# Altium schematic symbol library ŞEMATİK KÜTÜPHANE.SchLib: 23 symbols
Pins are listed as number, name and electrical type; pins without a type are passive.

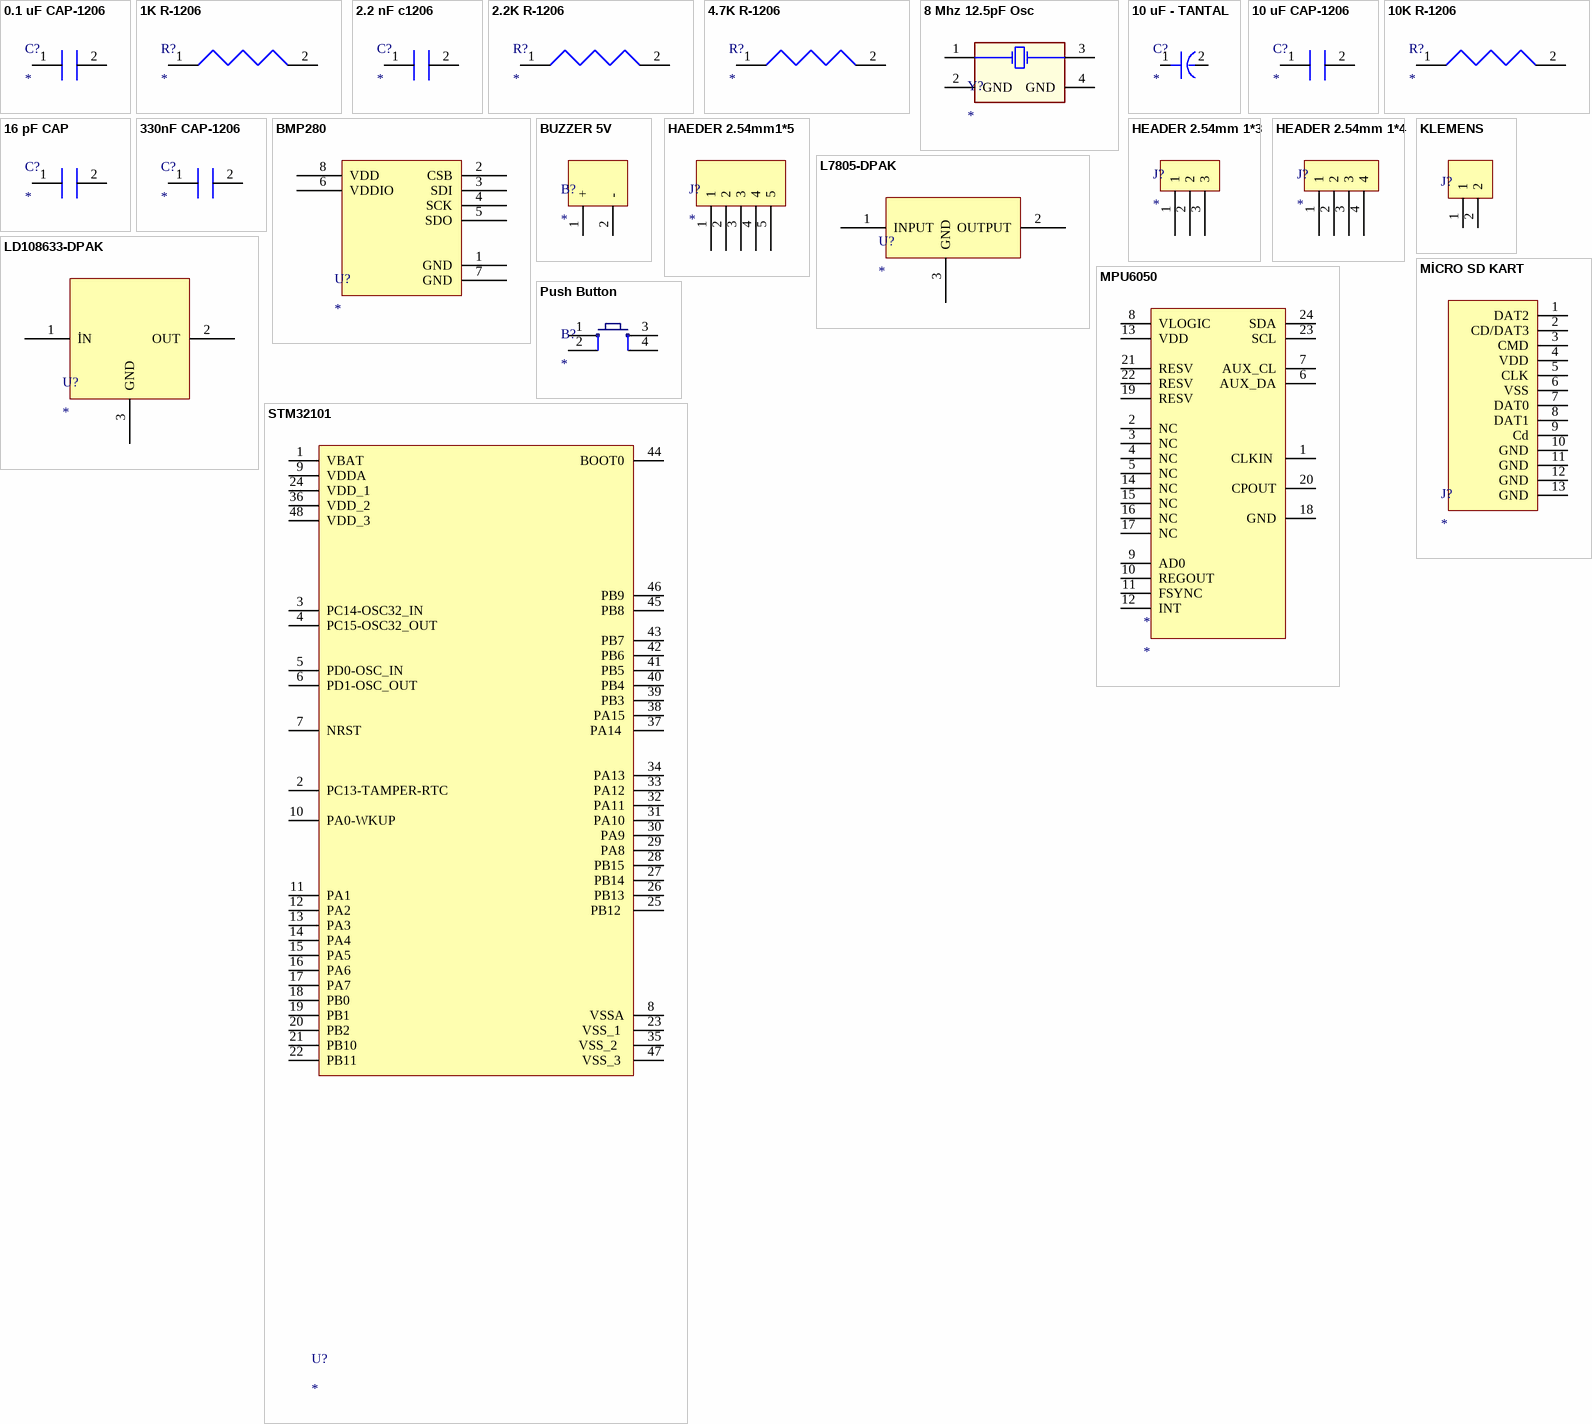
[diagram p0: symbols 0.1 uF CAP-1206 to STM32101]

## 0.1 uF CAP-1206
designator C?
0.1 uF 1206
footprint CAP-1206
pins: 1, 2

## 1K R-1206
designator R?
footprint RES 1206
pins: 1, 2

## 2.2 nF c1206
designator C?
footprint CAP-1206
pins: 1, 2

## 2.2K R-1206
designator R?
footprint RES 1206
pins: 1, 2

## 4.7K R-1206
designator R?
footprint RES 1206
pins: 1, 2

## 8 Mhz 12.5pF Osc
designator Y?
footprint 8 Mhz 12.5pF OSC
pins: 1 (power) "Regulator Input Supply. Bypass IN to GND with a 1 uF or greater capacitor.", 2 GND (power) "Ground.", 3 "Enable Input. Drive EN high to turn on the regulator; drive it low to turn off the regulator. For automatic startup, connect EN to IN.", 4 GND "Connect a 1 nF or greater capacitor (10 nF is recommended) between BYP and GND to reduce the internal reference noise for low noise applications."

## 10 uF - TANTAL
designator C?
KUTUPLU
footprint CAP-1206 TANTAL
pins: 1, 2

## 10 uF CAP-1206
designator C?
footprint CAP-1206
pins: 1, 2

## 10K R-1206
designator R?
footprint RES 1206
pins: 1, 2

## 16 pF CAP
designator C?
16pF Capasitör
footprint 16pF CAP
pins: 1, 2

## 330nF CAP-1206
designator C?
330nF 1206
footprint CAP-1206
pins: 1, 2

## BMP280
designator U?
BMP280 SENSOR
footprint BMP-280
pins: 1 GND, 2 CSB, 3 SDI, 4 SCK, 5 SDO, 6 VDDIO, 7 GND, 8 VDD

## BUZZER 5V
designator B?
1*2
footprint BUZZER (1*2)
pins: 1 +, 2 -

## HAEDER 2.54mm1*5
designator J?
5 PİNLİ
footprint FEMALE HEADER 1*5 2.54 MM
pins: 1, 2, 3, 4, 5

## HEADER 2.54mm 1*3
designator J?
3 PİNLİ
footprint FEMALE HEADER 1*3 2.54MM
pins: 1, 2, 3

## HEADER 2.54mm 1*4
designator J?
4 PİNLİ
footprint FEMALE HEADER 1*4 2.54MM
pins: 1, 2, 3, 4

## KLEMENS
designator J?
1*2/ 3.5MM
footprint KLEMENS 1*2 / 3.5mm
pins: 1, 2

## L7805-DPAK
designator U?
5V REGÜLATÖR DPAK
footprint DPAKL7805 REGULATOR
pins: 1 INPUT, 2 OUTPUT, 3 GND

## LD108633-DPAK
designator U?
3.3V  REGÜLATÖR
footprint DPAKL7805 REGULATOR
pins: 1 İN, 2 OUT, 3 GND

## MİCRO SD KART
designator J?
SD HOLDER
footprint MİCRO SD KART (SD CARD HOLDER)
pins: 1 DAT2, 2 CD/DAT3, 3 CMD, 4 VDD, 5 CLK, 6 VSS, 7 DAT0, 8 DAT1, 9 Cd, 10 GND, 11 GND, 12 GND, 13 GND

## MPU6050
designator *
QFNP 6*6 İŞLEMCİ
footprint MPU6050-QFN (QFN, 24-Leads, Body 3,95x3,95mm, Pitch 0,50mm, Thermal Pad 2,70x2,60mm, IPC Medium Density)
pins: 1 CLKIN , 2 NC, 3 NC, 4 NC, 5 NC, 6 AUX_DA, 7 AUX_CL, 8 VLOGIC, 9 AD0, 10 REGOUT, 11 FSYNC, 12 INT, 13 VDD, 14 NC, 15 NC, 16 NC, 17 NC, 18 GND, 19 RESV, 20 CPOUT, 21 RESV, 22 RESV, 23 SCL, 24 SDA

## Push Button
designator B?
Smd Push Button; Satın Alma Linki: https://urun.n11.com/diger/mini-pushbutton-switch-smd-P227461537?gclid=Cj0KCQjwkoDmBRCcARIsAG3xzl8Y_-jeD7HocNM6lvuZ_rVp83568XPGtNzlPwXWLph8oCRqo0yh87UaApZYEALw_wcB&gclsrc=aw.ds
footprint PUSH BUTTON (HAZIR)
pins: 1, 2, 3, 4

## STM32101
designator U?
STM32F48 101 İŞLEMCİ; ComponentLink1Description: New link; ComponentLink1URL: *; ComponentLink2Description: New link; ComponentLink2URL: *; ComponentLink3Description: New link; ComponentLink3URL: *
footprint FQP48
pins: 1 VBAT, 2 PC13-TAMPER-RTC, 3 PC14-OSC32_IN, 4 PC15-OSC32_OUT, 5 PD0-OSC_IN, 6 PD1-OSC_OUT, 7 NRST, 8 VSSA, 9 VDDA, 10 PA0-WKUP, 11 PA1, 12 PA2, 13 PA3, 14 PA4, 15 PA5, 16 PA6, 17 PA7, 18 PB0, 19 PB1, 20 PB2, 21 PB10, 22 PB11, 23 VSS_1 , 24 VDD_1, 25 PB12 , 26 PB13, 27 PB14, 28 PB15, 29 PA8, 30 PA9, 31 PA10, 32 PA11, 33 PA12, 34 PA13, 35 VSS_2  , 36 VDD_2 , 37 PA14 , 38 PA15, 39 PB3, 40 PB4, 41 PB5, 42 PB6, 43 PB7, 44 BOOT0, 45 PB8, 46 PB9, 47 VSS_3 , 48 VDD_3 